# Altium footprint library Mini-Circuits.PcbLib: 4 footprints
Each footprint in its own frame and in the unit in brackets; x right, y up, seen from the top. Pads: shape width x height; smd on the part's side, far side on the other; paste and mask are expansions set on the pad; w line width, h text height; cw(c..) or ccw(c..) is an arc to the next point about the centre after c.
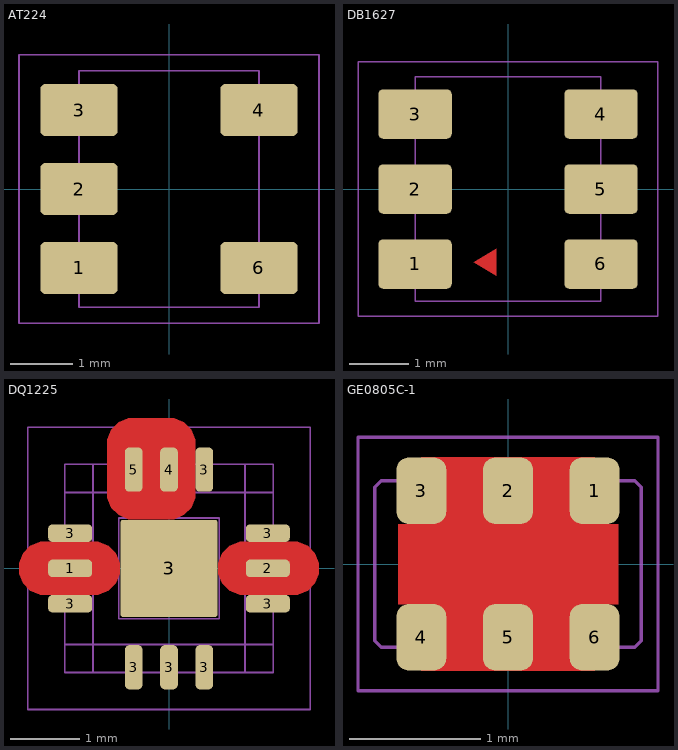
[diagram p0: the footprints below, top view; thin cyan lines are the x and y axes]

## AT224 [mil]
pads (5):
  rrect20% 49x33 smd mask+2: 1(-57,-50) 2(-57,0) 3(-57,50) 4(57,50) 6(57,-50)
Top Component Outline:
  lines w1: -95,-85 -95,85 95,85 95,-85 -95,-85
Top 3D Body (Mech16):
  lines w1: -75,-64 -75,-36 -35,-36 -35,-64 -75,-64 ; -75,-14 -35,-14 -35,14 -75,14 -75,-14 ; -75,36 -75,64 -35,64 -35,36 -75,36 ; -57,-75 57,-75 57,75 -57,75 -57,-75 ; 35,-64 35,-36 75,-36 75,-64 35,-64 ; 35,36 75,36 75,64 35,64 35,36
3D body: height 5, standoff 0, extent 35,36 75,64
3D body: height 5, standoff 0, extent 35,-64 75,-36
3D body: height 5, standoff 0, extent -75,-64 -35,-36
3D body: height 5, standoff 0, extent -75,-14 -35,14
3D body: height 5, standoff 0, extent -75,36 -35,64
3D body: height 104.92, standoff 25.08, extent -40,-9.68 40,70
3D body: height 104.92, standoff 25.08, extent -40,-70 40,9.68
3D body: height 105, standoff 25, extent -40,-30.32 40,30.16
3D body: height 65, standoff 50, extent -61.48,-63.86 68.01,65.88
3D body: height 80, standoff 65, extent -63,-69.87 66.49,59.87
3D body: height 21, standoff 0.5, extent -57,-75 57,75

## DB1627 [mil]
pads (6):
  rrect20% 49x33 smd mask+2: 1(-62,-50) 2(-62,0) 3(-62,50) 4(62,50) 5(62,0) 6(62,-50)
Top Layer:
  region: -23,-49 -8,-58 -8,-40
Top Component Outline:
  lines w1: -100,-85 -100,85 100,85 100,-85 -100,-85
Top 3D Body (Mech16):
  lines w1: -80,-64 -80,-36 -40,-36 -40,-64 -80,-64 ; -80,-14 -40,-14 -40,14 -80,14 -80,-14 ; -80,36 -80,64 -40,64 -40,36 -80,36 ; -62,-75 62,-75 62,75 -62,75 -62,-75 ; 40,-64 40,-36 80,-36 80,-64 40,-64 ; 40,-14 40,14 80,14 80,-14 40,-14 ; 40,36 40,64 80,64 80,36 40,36
3D body: height 160, standoff 145, extent -60,-64 60,64
3D body: height 18, standoff 0.5, extent -62,-75 62,75
3D body: height 5, standoff 0, extent 40,36 80,64
3D body: height 5, standoff 0, extent 40,-14 80,14
3D body: height 5, standoff 0, extent 40,-64 80,-36
3D body: height 5, standoff 0, extent -80,-64 -40,-36
3D body: height 5, standoff 0, extent -80,-14 -40,14
3D body: height 5, standoff 0, extent -80,36 -40,64
3D body: height 146, standoff 14, extent -25,-60 25,60
3D body: height 65, standoff 50, extent -42.68,-81 37,-1.16
3D body: height 80, standoff 65, extent -37.68,-77 42,2.84
3D body: height 110, standoff 95, extent -39.68,-74 40,5.84
3D body: height 95, standoff 80, extent -38.68,-80 41,-0.16
3D body: height 110, standoff 95, extent -39,2.16 40.68,82
3D body: height 95, standoff 80, extent -36.68,4 43,83.84
3D body: height 65, standoff 50, extent -39.68,0 40,79.84
3D body: height 80, standoff 65, extent -34.68,6.09 45.01,85.93

## DQ1225 [mil]
pads (13):
  rrect50% 25x10 smd mask+2: 1(-56,0) 2(56,0) 3(-56,-20) 3(-56,20) 3(56,-20) 3(56,20)
  rrect50% 10x25 smd mask+2: 3(-20,-56) 3(0,-56) 3(20,-56) 3(20,56) 4(0,56) 5(-20,56)
  rrect5% 55x55 smd paste-100 mask+2: 3(0,0)
Top Layer:
  pour cut-out: -43,-15 -40.02,-15 -34.5,-12.72 -30.28,-8.5 -28,-2.98 -28,0 -28,2.98 -30.28,8.5 -34.5,12.72 -40.02,15 -43,15 -70,15 -72.98,15 -78.5,12.72 -82.72,8.5 -85,2.98 -85,0 -85,-2.98 -82.72,-8.5 -78.5,-12.72 -72.98,-15 -70,-15
  pour cut-out: 43,15 40.02,15 34.5,12.72 30.28,8.5 28,2.98 28,0 28,-2.98 30.28,-8.5 34.5,-12.72 40.02,-15 43,-15 70,-15 72.98,-15 78.5,-12.72 82.72,-8.5 85,-2.98 85,0 85,2.98 82.72,8.5 78.5,12.72 72.98,15 70,15
  pour cut-out: 0,85 -20,85 -22.98,85 -28.5,82.72 -32.72,78.5 -35,72.98 -35,70 -35,43 -35,40.02 -32.72,34.5 -28.5,30.28 -22.98,28 -20,28 0,28 2.98,28 8.5,30.28 12.72,34.5 15,40.02 15,43 15,70 15,72.98 12.72,78.5 8.5,82.72 2.98,85
Top Paste:
  region: 5,24 5,5 24,5 24,24
  region: 24,-5 5,-5 5,-24 24,-24
  region: -5,-24 -5,-5 -24,-5 -24,-24
  rectangle: -24,5 -5,24
Top Component Outline:
  lines w1: -80,-80 80,-80 80,80 -80,80 -80,-80
Top 3D Body (Mech16):
  lines w1: -59.06,-43.05 59.06,-43.05 ; -59.06,43.06 59.06,43.06 ; -43.06,-59.05 -43.06,59.06 ; 43.06,-59.05 43.06,59.06 ; -59.06,-59.05 -59.06,59.06 59.06,59.06 59.06,-59.05 -59.06,-59.05 ; -28.5,-28.5 28.5,-28.5 28.5,28.5 -28.5,28.5 -28.5,-28.5
3D body: height 10, standoff 0, extent 14.69,50.06 24.68,60.06
3D body: height 10, standoff 0, extent -5,50.06 5,60.06
3D body: height 10, standoff 0, extent -24.69,50.06 -14.69,60.06
3D body: height 10, standoff 0, extent 50.06,-24.68 60.06,-14.69
3D body: height 10, standoff 0, extent 50.06,-5 60.06,5
3D body: height 10, standoff 0, extent 50.06,14.69 60.06,24.69
3D body: height 10, standoff 0, extent -24.69,-60.06 -14.69,-50.06
3D body: height 10, standoff 0, extent -5,-60.06 5,-50.06
3D body: height 10, standoff 0, extent 14.69,-60.06 24.68,-50.06
3D body: height 10, standoff 0, extent -60.06,-24.68 -50.06,-14.69
3D body: height 10, standoff 0, extent -60.06,-5 -50.06,5
3D body: height 10, standoff 0, extent -60.06,14.69 -50.06,24.69
3D body: height 35, standoff 0, extent -59.06,-59.05 59.06,59.06

## GE0805C-1 [mil]
pads (6):
  rrect50% 15x20 smd paste+0 mask+2: 1(26,22) 2(0,22) 3(-26,22) 4(-26,-22) 5(0,-22) 6(26,-22)
Top Layer:
  pour cut-out: -33,-12 -26,-12 -26,-32 26,-32 26,-12 33,-12 33,12 26,12 26,32 -26,32 -26,12 -33,12
Top Solder:
  region: 15,5 15,-5 25,-5 25,5
Top Component Outline:
  lines w1: -45,-38 45,-38 45,38 -45,38 -45,-38
Top 3D Body (Mech16):
  lines w1: -40,-23 -40,23 -38,25 38,25 40,23 40,-23 38,-25 -38,-25 -40,-23
3D body: height 37.8, standoff 0, extent -7,18 7,26
3D body: height 37.4, standoff 1, extent -40,-25 40,25
3D body: height 37.8, standoff 0, extent 19,18 33,26
3D body: height 37.8, standoff 0, extent -33,18 -19,26
3D body: height 37.8, standoff 0, extent 19,-26 33,-18
3D body: height 37.8, standoff 0, extent -33,-26 -19,-18
3D body: height 37.8, standoff 0, extent -7,-26 7,-18
3D body: height 37.44, standoff 0, extent 7.5,-8 32.5,8